# Altium schematic symbol library L293NE.SchLib: 1 symbol
Pins are listed as number, name and electrical type; pins without a type are passive.

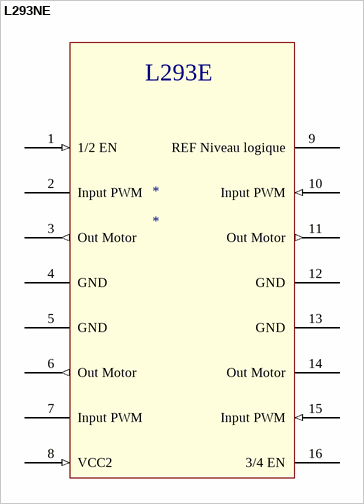
[diagram p0: symbol L293NE]

## L293NE
designator *
footprint L293NE
pins: 1 1/2 EN (in), 2 Input PWM "I PWM", 3 Out Motor (out), 4 GND, 5 GND, 6 Out Motor (out), 7 Input PWM, 8 VCC2 (in) "(Puissance)", 9 REF Niveau logique, 10 Input PWM (in), 11 Out Motor (out), 12 GND, 13 GND, 14 Out Motor, 15 Input PWM (in), 16 3/4 EN
text: L293E